# Altium schematic symbol library WR-FPC.SchLib: 258 symbols (part 5 of 6)
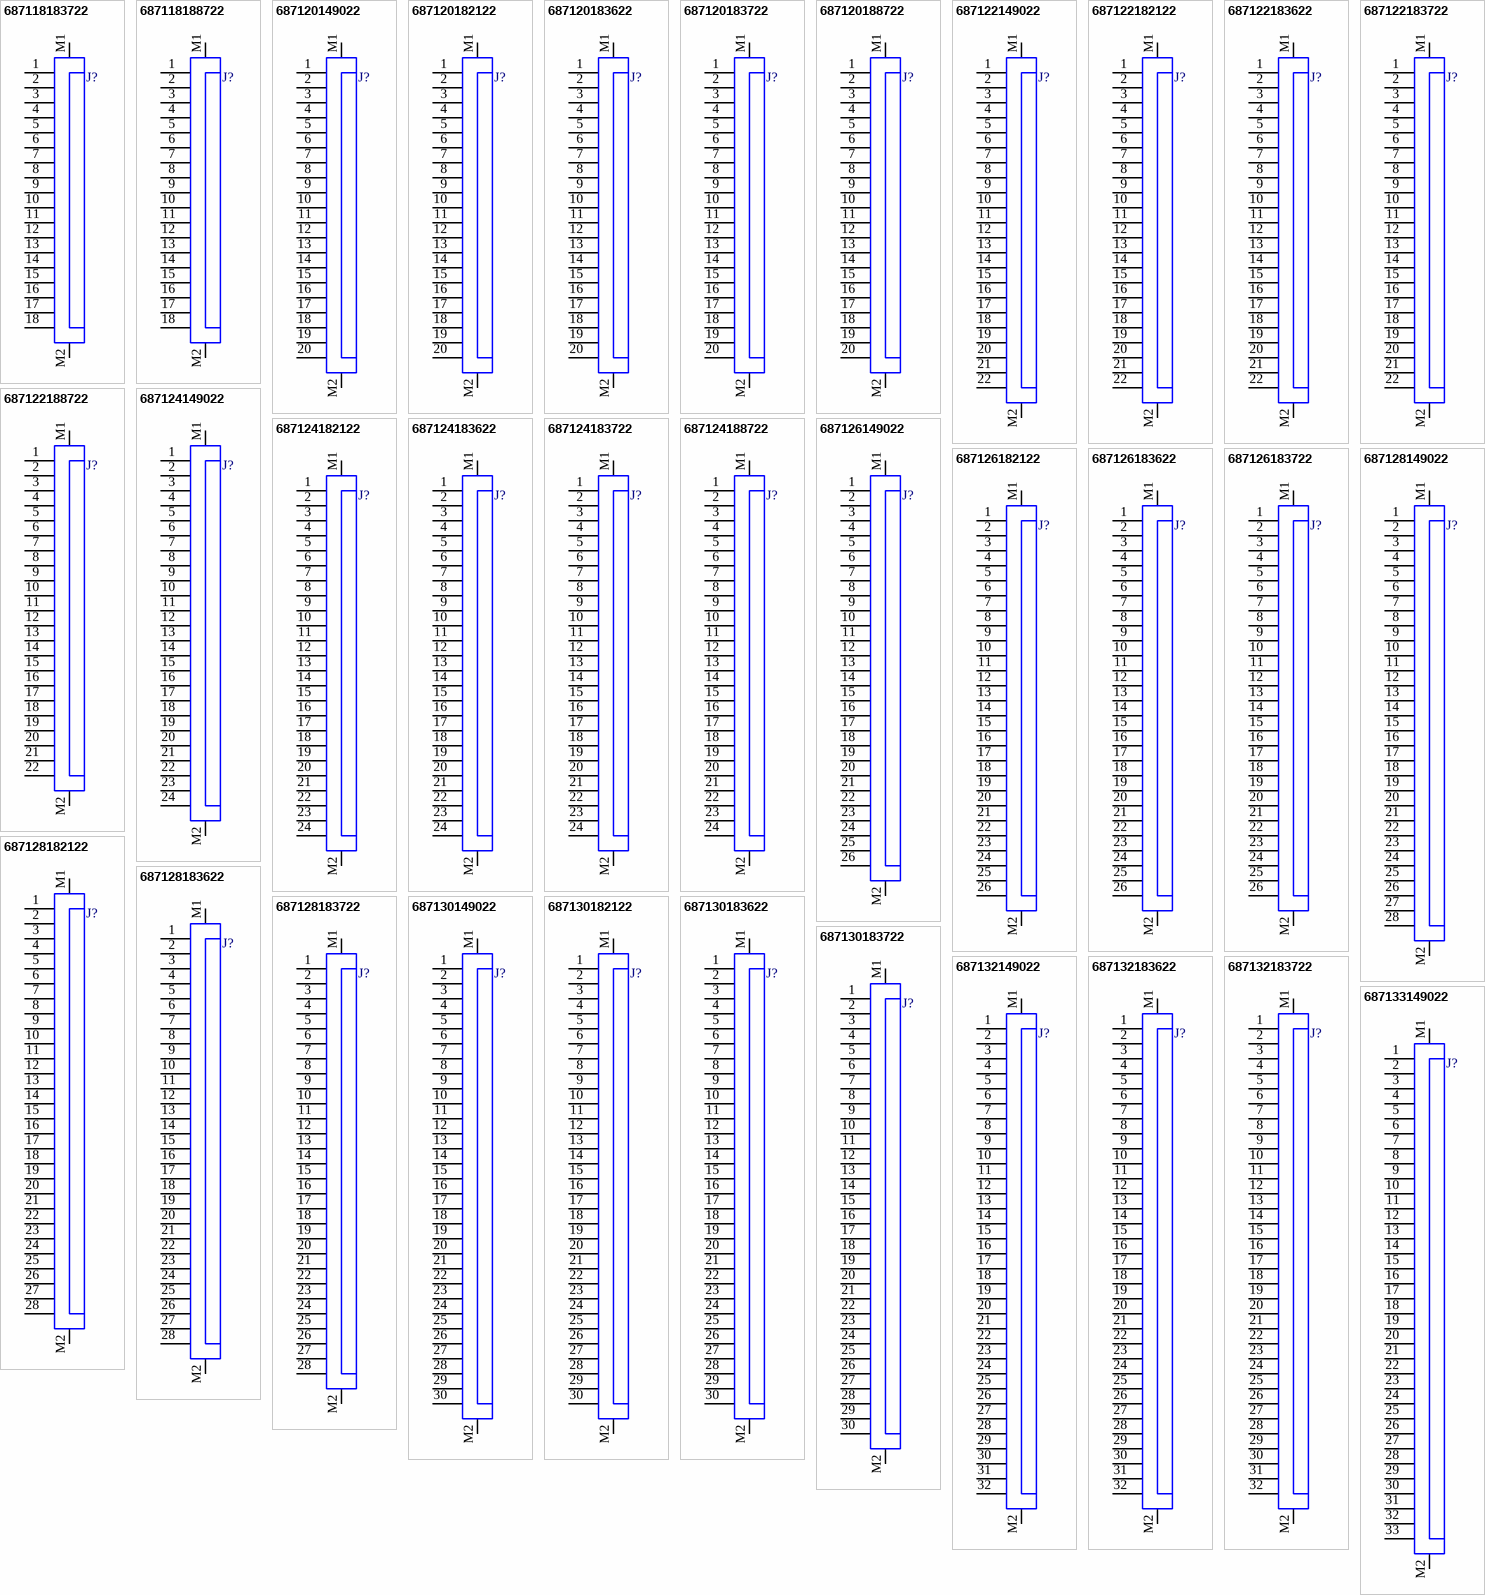
[diagram p11: symbols 687118183722 to 687133149022]

## 687126182122
designator J?  (value not drawn)
WR-FPC SMT ZIF Horizontal Dual Contact, pitch 0.5mm, Horizontal, 26pins; Manufacturer: Wurth Elektronik; Contact Resistance: 30mΩ; Rated Current: 0.5A; Working Voltage: 50VAC; Withstanding Voltage: 1000VAC; ComponentLink1Description: Datasheet; ComponentLink1URL: https://www.we-online.com/redexpert/spec/687126182122?ad; Manufacturer Part Number: 687126182122; Category: FPC Connectors; Mount: Surface Mount; Operating Temperature Max: 85°C; Operating Temperature Min: -55°C; Packaging: Tape and Reel; Length: 15mm; Width: 3.7mm; Height: 0.96mm; Number of Pins: 26; Orientation: Horizontal; Pitch: 0.5mm; LCSC Part #: N/A; Supplier 1: Mouser; Supplier 1 Part Number: N/A; Supplier 1 URL: N/A; Supplier 2: Digi-Key; Supplier 2 Part Number: N/A; Supplier 2 URL: N/A; Supplier 3: thegioiic; Supplier 3 Part Number: N/A; Supplier 3 URL: N/A; Value: 687126182122
footprint 687126182122
pins: 1, 2, 3, 4, 5, 6, 7, 8, 9, 10, 11, 12, 13, 14, 15, 16, 17, 18, 19, 20, 21, 22, 23, 24, 25, 26, M1, M2

## 687126183622
designator J?  (value not drawn)
WR-FPC SMT ZIF Horizontal Top Contact Low Profile, pitch 0.5mm, Horizontal, 26pins; Manufacturer: Wurth Elektronik; Contact Resistance: 30mΩ; Rated Current: 0.4A; Working Voltage: 50VAC; Withstanding Voltage: 1000VAC; ComponentLink1Description: Datasheet; ComponentLink1URL: https://www.we-online.com/redexpert/spec/687126183622?ad; Manufacturer Part Number: 687126183622; Category: FPC Connectors; Mount: Surface Mount; Operating Temperature Max: 85°C; Operating Temperature Min: -25°C; Packaging: Tape and Reel; Length: 18.7mm; Width: 4.25mm; Height: 1.2mm; Number of Pins: 26; Orientation: Horizontal; Pitch: 0.5mm; LCSC Part #: N/A; Supplier 1: Mouser; Supplier 1 Part Number: N/A; Supplier 1 URL: N/A; Supplier 2: Digi-Key; Supplier 2 Part Number: N/A; Supplier 2 URL: N/A; Supplier 3: thegioiic; Supplier 3 Part Number: N/A; Supplier 3 URL: N/A; Value: 687126183622
footprint 687126183622
pins: 1, 2, 3, 4, 5, 6, 7, 8, 9, 10, 11, 12, 13, 14, 15, 16, 17, 18, 19, 20, 21, 22, 23, 24, 25, 26, M1, M2

## 687126183722
designator J?  (value not drawn)
WR-FPC SMT ZIF Horizontal Bottom Contact Low Profile, pitch 0.5mm, Horizontal, 26pins; Manufacturer: Wurth Elektronik; Contact Resistance: 30mΩ; Rated Current: 0.4A; Working Voltage: 50VAC; Withstanding Voltage: 1000VAC; ComponentLink1Description: Datasheet; ComponentLink1URL: https://www.we-online.com/redexpert/spec/687126183722?ad; Manufacturer Part Number: 687126183722; Category: FPC Connectors; Mount: Surface Mount; Operating Temperature Max: 85°C; Operating Temperature Min: -25°C; Packaging: Tape and Reel; Length: 18.7mm; Width: 4.25mm; Height: 1.2mm; Number of Pins: 26; Orientation: Horizontal; Pitch: 0.5mm; LCSC Part #: N/A; Supplier 1: Mouser; Supplier 1 Part Number: N/A; Supplier 1 URL: N/A; Supplier 2: Digi-Key; Supplier 2 Part Number: N/A; Supplier 2 URL: N/A; Supplier 3: thegioiic; Supplier 3 Part Number: N/A; Supplier 3 URL: N/A; Value: 687126183722
footprint 687126183722
pins: 1, 2, 3, 4, 5, 6, 7, 8, 9, 10, 11, 12, 13, 14, 15, 16, 17, 18, 19, 20, 21, 22, 23, 24, 25, 26, M1, M2

## 687128149022
designator J?  (value not drawn)
WR-FPC SMT ZIF Horizontal Bottom Contact, pitch 0.5mm, Horizontal, 28pins; Manufacturer: Wurth Elektronik; Contact Resistance: 50mΩ; Rated Current: 0.5A; Working Voltage: 50VAC; Withstanding Voltage: 1000VAC; ComponentLink1Description: Datasheet; ComponentLink1URL: https://www.we-online.com/redexpert/spec/687128149022?ad; Manufacturer Part Number: 687128149022; Category: FPC Connectors; Mount: Surface Mount; Operating Temperature Max: 105°C; Operating Temperature Min: -40°C; Packaging: Tape and Reel; Length: 18.1mm; Width: 6.5mm; Height: 2.2mm; Number of Pins: 28; Orientation: Horizontal; Pitch: 0.5mm; LCSC Part #: N/A; Supplier 1: Mouser; Supplier 1 Part Number: N/A; Supplier 1 URL: N/A; Supplier 2: Digi-Key; Supplier 2 Part Number: N/A; Supplier 2 URL: N/A; Supplier 3: thegioiic; Supplier 3 Part Number: N/A; Supplier 3 URL: N/A; Value: 687128149022
footprint 687128149022
pins: 1, 2, 3, 4, 5, 6, 7, 8, 9, 10, 11, 12, 13, 14, 15, 16, 17, 18, 19, 20, 21, 22, 23, 24, 25, 26, 27, 28, M1, M2

## 687128182122
designator J?  (value not drawn)
WR-FPC SMT ZIF Horizontal Dual Contact, pitch 0.5mm, Horizontal, 28pins; Manufacturer: Wurth Elektronik; Contact Resistance: 30mΩ; Rated Current: 0.5A; Working Voltage: 50VAC; Withstanding Voltage: 1000VAC; ComponentLink1Description: Datasheet; ComponentLink1URL: https://www.we-online.com/redexpert/spec/687128182122?ad; Manufacturer Part Number: 687128182122; Category: FPC Connectors; Mount: Surface Mount; Operating Temperature Max: 85°C; Operating Temperature Min: -55°C; Packaging: Tape and Reel; Length: 16mm; Width: 3.7mm; Height: 0.96mm; Number of Pins: 28; Orientation: Horizontal; Pitch: 0.5mm; LCSC Part #: N/A; Supplier 1: Mouser; Supplier 1 Part Number: N/A; Supplier 1 URL: N/A; Supplier 2: Digi-Key; Supplier 2 Part Number: N/A; Supplier 2 URL: N/A; Supplier 3: thegioiic; Supplier 3 Part Number: N/A; Supplier 3 URL: N/A; Value: 687128182122
footprint 687128182122
pins: 1, 2, 3, 4, 5, 6, 7, 8, 9, 10, 11, 12, 13, 14, 15, 16, 17, 18, 19, 20, 21, 22, 23, 24, 25, 26, 27, 28, M1, M2

## 687128183622
designator J?  (value not drawn)
WR-FPC SMT ZIF Horizontal Top Contact Low Profile, pitch 0.5mm, Horizontal, 28pins; Manufacturer: Wurth Elektronik; Contact Resistance: 30mΩ; Rated Current: 0.4A; Working Voltage: 50VAC; Withstanding Voltage: 1000VAC; ComponentLink1Description: Datasheet; ComponentLink1URL: https://www.we-online.com/redexpert/spec/687128183622?ad; Manufacturer Part Number: 687128183622; Category: FPC Connectors; Mount: Surface Mount; Operating Temperature Max: 85°C; Operating Temperature Min: -25°C; Packaging: Tape and Reel; Length: 19.7mm; Width: 4.25mm; Height: 1.2mm; Number of Pins: 28; Orientation: Horizontal; Pitch: 0.5mm; LCSC Part #: N/A; Supplier 1: Mouser; Supplier 1 Part Number: N/A; Supplier 1 URL: N/A; Supplier 2: Digi-Key; Supplier 2 Part Number: N/A; Supplier 2 URL: N/A; Supplier 3: thegioiic; Supplier 3 Part Number: N/A; Supplier 3 URL: N/A; Value: 687128183622
footprint 687128183622
pins: 1, 2, 3, 4, 5, 6, 7, 8, 9, 10, 11, 12, 13, 14, 15, 16, 17, 18, 19, 20, 21, 22, 23, 24, 25, 26, 27, 28, M1, M2

## 687128183722
designator J?  (value not drawn)
WR-FPC SMT ZIF Horizontal Bottom Contact Low Profile, pitch 0.5mm, Horizontal, 28pins; Manufacturer: Wurth Elektronik; Contact Resistance: 30mΩ; Rated Current: 0.4A; Working Voltage: 50VAC; Withstanding Voltage: 1000VAC; ComponentLink1Description: Datasheet; ComponentLink1URL: https://www.we-online.com/redexpert/spec/687128183722?ad; Manufacturer Part Number: 687128183722; Category: FPC Connectors; Mount: Surface Mount; Operating Temperature Max: 85°C; Operating Temperature Min: -25°C; Packaging: Tape and Reel; Length: 19.7mm; Width: 4.25mm; Height: 1.2mm; Number of Pins: 28; Orientation: Horizontal; Pitch: 0.5mm; LCSC Part #: N/A; Supplier 1: Mouser; Supplier 1 Part Number: N/A; Supplier 1 URL: N/A; Supplier 2: Digi-Key; Supplier 2 Part Number: N/A; Supplier 2 URL: N/A; Supplier 3: thegioiic; Supplier 3 Part Number: N/A; Supplier 3 URL: N/A; Value: 687128183722
footprint 687128183722
pins: 1, 2, 3, 4, 5, 6, 7, 8, 9, 10, 11, 12, 13, 14, 15, 16, 17, 18, 19, 20, 21, 22, 23, 24, 25, 26, 27, 28, M1, M2

## 687130149022
designator J?  (value not drawn)
WR-FPC SMT ZIF Horizontal Bottom Contact, pitch 0.5mm, Horizontal, 30pins; Manufacturer: Wurth Elektronik; Contact Resistance: 50mΩ; Rated Current: 0.5A; Working Voltage: 50VAC; Withstanding Voltage: 1000VAC; ComponentLink1Description: Datasheet; ComponentLink1URL: https://www.we-online.com/redexpert/spec/687130149022?ad; Manufacturer Part Number: 687130149022; Category: FPC Connectors; Mount: Surface Mount; Operating Temperature Max: 105°C; Operating Temperature Min: -40°C; Packaging: Tape and Reel; Length: 19.1mm; Width: 6.5mm; Height: 2.2mm; Number of Pins: 30; Orientation: Horizontal; Pitch: 0.5mm; LCSC Part #: N/A; Supplier 1: Mouser; Supplier 1 Part Number: N/A; Supplier 1 URL: N/A; Supplier 2: Digi-Key; Supplier 2 Part Number: N/A; Supplier 2 URL: N/A; Supplier 3: thegioiic; Supplier 3 Part Number: N/A; Supplier 3 URL: N/A; Value: 687130149022
footprint 687130149022
pins: 1, 2, 3, 4, 5, 6, 7, 8, 9, 10, 11, 12, 13, 14, 15, 16, 17, 18, 19, 20, 21, 22, 23, 24, 25, 26, 27, 28, 29, 30, M1, M2

## 687130182122
designator J?  (value not drawn)
WR-FPC SMT ZIF Horizontal Dual Contact, pitch 0.5mm, Horizontal, 30pins; Manufacturer: Wurth Elektronik; Contact Resistance: 30mΩ; Rated Current: 0.5A; Working Voltage: 50VAC; Withstanding Voltage: 1000VAC; ComponentLink1Description: Datasheet; ComponentLink1URL: https://www.we-online.com/redexpert/spec/687130182122?ad; Manufacturer Part Number: 687130182122; Category: FPC Connectors; Mount: Surface Mount; Operating Temperature Max: 85°C; Operating Temperature Min: -55°C; Packaging: Tape and Reel; Length: 17mm; Width: 3.7mm; Height: 0.96mm; Number of Pins: 30; Orientation: Horizontal; Pitch: 0.5mm; LCSC Part #: N/A; Supplier 1: Mouser; Supplier 1 Part Number: N/A; Supplier 1 URL: N/A; Supplier 2: Digi-Key; Supplier 2 Part Number: N/A; Supplier 2 URL: N/A; Supplier 3: thegioiic; Supplier 3 Part Number: N/A; Supplier 3 URL: N/A; Value: 687130182122
footprint 687130182122
pins: 1, 2, 3, 4, 5, 6, 7, 8, 9, 10, 11, 12, 13, 14, 15, 16, 17, 18, 19, 20, 21, 22, 23, 24, 25, 26, 27, 28, 29, 30, M1, M2

## 687130183622
designator J?  (value not drawn)
WR-FPC SMT ZIF Horizontal Top Contact Low Profile, pitch 0.5mm, Horizontal, 30pins; Manufacturer: Wurth Elektronik; Contact Resistance: 30mΩ; Rated Current: 0.4A; Working Voltage: 50VAC; Withstanding Voltage: 1000VAC; ComponentLink1Description: Datasheet; ComponentLink1URL: https://www.we-online.com/redexpert/spec/687130183622?ad; Manufacturer Part Number: 687130183622; Category: FPC Connectors; Mount: Surface Mount; Operating Temperature Max: 85°C; Operating Temperature Min: -25°C; Packaging: Tape and Reel; Length: 20.7mm; Width: 4.25mm; Height: 1.2mm; Number of Pins: 30; Orientation: Horizontal; Pitch: 0.5mm; LCSC Part #: N/A; Supplier 1: Mouser; Supplier 1 Part Number: N/A; Supplier 1 URL: N/A; Supplier 2: Digi-Key; Supplier 2 Part Number: N/A; Supplier 2 URL: N/A; Supplier 3: thegioiic; Supplier 3 Part Number: N/A; Supplier 3 URL: N/A; Value: 687130183622
footprint 687130183622
pins: 1, 2, 3, 4, 5, 6, 7, 8, 9, 10, 11, 12, 13, 14, 15, 16, 17, 18, 19, 20, 21, 22, 23, 24, 25, 26, 27, 28, 29, 30, M1, M2

## 687130183722
designator J?  (value not drawn)
WR-FPC SMT ZIF Horizontal Bottom Contact Low Profile, pitch 0.5mm, Horizontal, 30pins; Manufacturer: Wurth Elektronik; Contact Resistance: 30mΩ; Rated Current: 0.4A; Working Voltage: 50VAC; Withstanding Voltage: 1000VAC; ComponentLink1Description: Datasheet; ComponentLink1URL: https://www.we-online.com/redexpert/spec/687130183722?ad; Manufacturer Part Number: 687130183722; Category: FPC Connectors; Mount: Surface Mount; Operating Temperature Max: 85°C; Operating Temperature Min: -25°C; Packaging: Tape and Reel; Length: 20.7mm; Width: 4.25mm; Height: 1.2mm; Number of Pins: 30; Orientation: Horizontal; Pitch: 0.5mm; LCSC Part #: N/A; Supplier 1: Mouser; Supplier 1 Part Number: N/A; Supplier 1 URL: N/A; Supplier 2: Digi-Key; Supplier 2 Part Number: N/A; Supplier 2 URL: N/A; Supplier 3: thegioiic; Supplier 3 Part Number: N/A; Supplier 3 URL: N/A; Value: 687130183722
footprint 687130183722
pins: 1, 2, 3, 4, 5, 6, 7, 8, 9, 10, 11, 12, 13, 14, 15, 16, 17, 18, 19, 20, 21, 22, 23, 24, 25, 26, 27, 28, 29, 30, M1, M2

## 687132149022
designator J?  (value not drawn)
WR-FPC SMT ZIF Horizontal Bottom Contact, pitch 0.5mm, Horizontal, 32pins; Manufacturer: Wurth Elektronik; Contact Resistance: 50mΩ; Rated Current: 0.5A; Working Voltage: 50VAC; Withstanding Voltage: 1000VAC; ComponentLink1Description: Datasheet; ComponentLink1URL: https://www.we-online.com/redexpert/spec/687132149022?ad; Manufacturer Part Number: 687132149022; Category: FPC Connectors; Mount: Surface Mount; Operating Temperature Max: 105°C; Operating Temperature Min: -40°C; Packaging: Tape and Reel; Length: 20.1mm; Width: 6.5mm; Height: 2.2mm; Number of Pins: 32; Orientation: Horizontal; Pitch: 0.5mm; LCSC Part #: N/A; Supplier 1: Mouser; Supplier 1 Part Number: N/A; Supplier 1 URL: N/A; Supplier 2: Digi-Key; Supplier 2 Part Number: N/A; Supplier 2 URL: N/A; Supplier 3: thegioiic; Supplier 3 Part Number: N/A; Supplier 3 URL: N/A; Value: 687132149022
footprint 687132149022
pins: 1, 2, 3, 4, 5, 6, 7, 8, 9, 10, 11, 12, 13, 14, 15, 16, 17, 18, 19, 20, 21, 22, 23, 24, 25, 26, 27, 28, 29, 30, 31, 32, M1, M2

## 687132183622
designator J?  (value not drawn)
WR-FPC SMT ZIF Horizontal Top Contact Low Profile, pitch 0.5mm, Horizontal, 32pins; Manufacturer: Wurth Elektronik; Contact Resistance: 30mΩ; Rated Current: 0.4A; Working Voltage: 50VAC; Withstanding Voltage: 1000VAC; ComponentLink1Description: Datasheet; ComponentLink1URL: https://www.we-online.com/redexpert/spec/687132183622?ad; Manufacturer Part Number: 687132183622; Category: FPC Connectors; Mount: Surface Mount; Operating Temperature Max: 85°C; Operating Temperature Min: -25°C; Packaging: Tape and Reel; Length: 21.7mm; Width: 4.25mm; Height: 1.2mm; Number of Pins: 32; Orientation: Horizontal; Pitch: 0.5mm; LCSC Part #: N/A; Supplier 1: Mouser; Supplier 1 Part Number: N/A; Supplier 1 URL: N/A; Supplier 2: Digi-Key; Supplier 2 Part Number: N/A; Supplier 2 URL: N/A; Supplier 3: thegioiic; Supplier 3 Part Number: N/A; Supplier 3 URL: N/A; Value: 687132183622
footprint 687132183622
pins: 1, 2, 3, 4, 5, 6, 7, 8, 9, 10, 11, 12, 13, 14, 15, 16, 17, 18, 19, 20, 21, 22, 23, 24, 25, 26, 27, 28, 29, 30, 31, 32, M1, M2

## 687132183722
designator J?  (value not drawn)
WR-FPC SMT ZIF Horizontal Bottom Contact Low Profile, pitch 0.5mm, Horizontal, 32pins; Manufacturer: Wurth Elektronik; Contact Resistance: 30mΩ; Rated Current: 0.4A; Working Voltage: 50VAC; Withstanding Voltage: 1000VAC; ComponentLink1Description: Datasheet; ComponentLink1URL: https://www.we-online.com/redexpert/spec/687132183722?ad; Manufacturer Part Number: 687132183722; Category: FPC Connectors; Mount: Surface Mount; Operating Temperature Max: 85°C; Operating Temperature Min: -25°C; Packaging: Tape and Reel; Length: 21.7mm; Width: 4.25mm; Height: 1.2mm; Number of Pins: 32; Orientation: Horizontal; Pitch: 0.5mm; LCSC Part #: N/A; Supplier 1: Mouser; Supplier 1 Part Number: N/A; Supplier 1 URL: N/A; Supplier 2: Digi-Key; Supplier 2 Part Number: N/A; Supplier 2 URL: N/A; Supplier 3: thegioiic; Supplier 3 Part Number: N/A; Supplier 3 URL: N/A; Value: 687132183722
footprint 687132183722
pins: 1, 2, 3, 4, 5, 6, 7, 8, 9, 10, 11, 12, 13, 14, 15, 16, 17, 18, 19, 20, 21, 22, 23, 24, 25, 26, 27, 28, 29, 30, 31, 32, M1, M2

## 687133149022
designator J?  (value not drawn)
WR-FPC SMT ZIF Horizontal Bottom Contact, pitch 0.5mm, Horizontal, 33pins; Manufacturer: Wurth Elektronik; Contact Resistance: 50mΩ; Rated Current: 0.5A; Working Voltage: 50VAC; Withstanding Voltage: 1000VAC; ComponentLink1Description: Datasheet; ComponentLink1URL: https://www.we-online.com/redexpert/spec/687133149022?ad; Manufacturer Part Number: 687133149022; Category: FPC Connectors; Mount: Surface Mount; Operating Temperature Max: 105°C; Operating Temperature Min: -40°C; Packaging: Tape and Reel; Length: 20.6mm; Width: 6.5mm; Height: 2.2mm; Number of Pins: 33; Orientation: Horizontal; Pitch: 0.5mm; LCSC Part #: N/A; Supplier 1: Mouser; Supplier 1 Part Number: N/A; Supplier 1 URL: N/A; Supplier 2: Digi-Key; Supplier 2 Part Number: N/A; Supplier 2 URL: N/A; Supplier 3: thegioiic; Supplier 3 Part Number: N/A; Supplier 3 URL: N/A; Value: 687133149022
footprint 687133149022
pins: 1, 2, 3, 4, 5, 6, 7, 8, 9, 10, 11, 12, 13, 14, 15, 16, 17, 18, 19, 20, 21, 22, 23, 24, 25, 26, 27, 28, 29, 30, 31, 32, 33, M1, M2

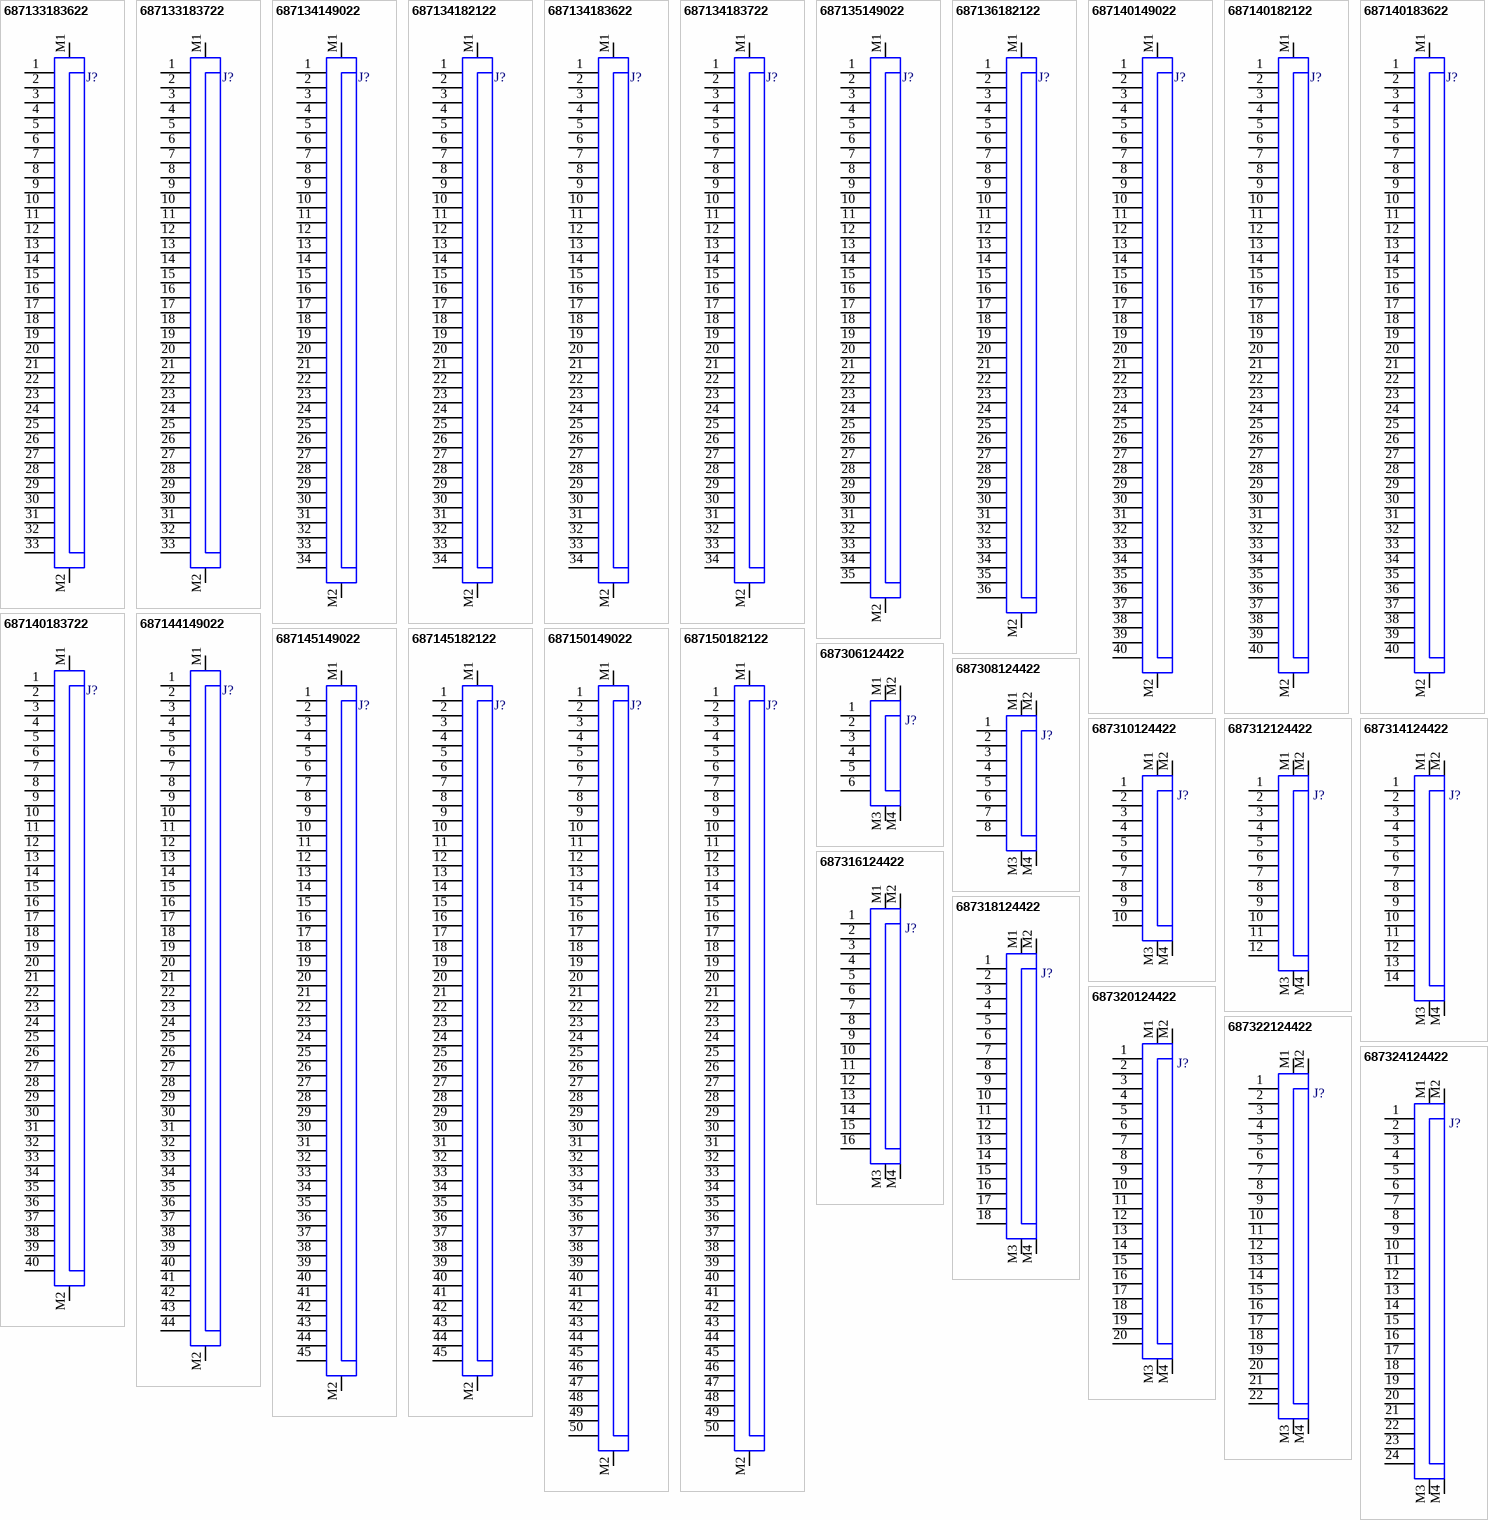
[diagram p6: symbols 687133183622 to 687324124422]

## 687133183622
designator J?  (value not drawn)
WR-FPC SMT ZIF Horizontal Top Contact Low Profile, pitch 0.5mm, Horizontal, 33pins; Manufacturer: Wurth Elektronik; Contact Resistance: 30mΩ; Rated Current: 0.4A; Working Voltage: 50VAC; Withstanding Voltage: 1000VAC; ComponentLink1Description: Datasheet; ComponentLink1URL: https://www.we-online.com/redexpert/spec/687133183622?ad; Manufacturer Part Number: 687133183622; Category: FPC Connectors; Mount: Surface Mount; Operating Temperature Max: 85°C; Operating Temperature Min: -25°C; Packaging: Tape and Reel; Length: 22.2mm; Width: 4.25mm; Height: 1.2mm; Number of Pins: 33; Orientation: Horizontal; Pitch: 0.5mm; LCSC Part #: N/A; Supplier 1: Mouser; Supplier 1 Part Number: N/A; Supplier 1 URL: N/A; Supplier 2: Digi-Key; Supplier 2 Part Number: N/A; Supplier 2 URL: N/A; Supplier 3: thegioiic; Supplier 3 Part Number: N/A; Supplier 3 URL: N/A; Value: 687133183622
footprint 687133183622
pins: 1, 2, 3, 4, 5, 6, 7, 8, 9, 10, 11, 12, 13, 14, 15, 16, 17, 18, 19, 20, 21, 22, 23, 24, 25, 26, 27, 28, 29, 30, 31, 32, 33, M1, M2

## 687133183722
designator J?  (value not drawn)
WR-FPC SMT ZIF Horizontal Bottom Contact Low Profile, pitch 0.5mm, Horizontal, 33pins; Manufacturer: Wurth Elektronik; Contact Resistance: 30mΩ; Rated Current: 0.4A; Working Voltage: 50VAC; Withstanding Voltage: 1000VAC; ComponentLink1Description: Datasheet; ComponentLink1URL: https://www.we-online.com/redexpert/spec/687133183722?ad; Manufacturer Part Number: 687133183722; Category: FPC Connectors; Mount: Surface Mount; Operating Temperature Max: 85°C; Operating Temperature Min: -25°C; Packaging: Tape and Reel; Length: 22.2mm; Width: 4.25mm; Height: 1.2mm; Number of Pins: 33; Orientation: Horizontal; Pitch: 0.5mm; LCSC Part #: N/A; Supplier 1: Mouser; Supplier 1 Part Number: N/A; Supplier 1 URL: N/A; Supplier 2: Digi-Key; Supplier 2 Part Number: N/A; Supplier 2 URL: N/A; Supplier 3: thegioiic; Supplier 3 Part Number: N/A; Supplier 3 URL: N/A; Value: 687133183722
footprint 687133183722
pins: 1, 2, 3, 4, 5, 6, 7, 8, 9, 10, 11, 12, 13, 14, 15, 16, 17, 18, 19, 20, 21, 22, 23, 24, 25, 26, 27, 28, 29, 30, 31, 32, 33, M1, M2

## 687134149022
designator J?  (value not drawn)
WR-FPC SMT ZIF Horizontal Bottom Contact, pitch 0.5mm, Horizontal, 34pins; Manufacturer: Wurth Elektronik; Contact Resistance: 50mΩ; Rated Current: 0.5A; Working Voltage: 50VAC; Withstanding Voltage: 1000VAC; ComponentLink1Description: Datasheet; ComponentLink1URL: https://www.we-online.com/redexpert/spec/687134149022?ad; Manufacturer Part Number: 687134149022; Category: FPC Connectors; Mount: Surface Mount; Operating Temperature Max: 105°C; Operating Temperature Min: -40°C; Packaging: Tape and Reel; Length: 21.1mm; Width: 6.5mm; Height: 2.2mm; Number of Pins: 34; Orientation: Horizontal; Pitch: 0.5mm; LCSC Part #: N/A; Supplier 1: Mouser; Supplier 1 Part Number: N/A; Supplier 1 URL: N/A; Supplier 2: Digi-Key; Supplier 2 Part Number: N/A; Supplier 2 URL: N/A; Supplier 3: thegioiic; Supplier 3 Part Number: N/A; Supplier 3 URL: N/A; Value: 687134149022
footprint 687134149022
pins: 1, 2, 3, 4, 5, 6, 7, 8, 9, 10, 11, 12, 13, 14, 15, 16, 17, 18, 19, 20, 21, 22, 23, 24, 25, 26, 27, 28, 29, 30, 31, 32, 33, 34, M1, M2

## 687134182122
designator J?  (value not drawn)
WR-FPC SMT ZIF Horizontal Dual Contact, pitch 0.5mm, Horizontal, 34pins; Manufacturer: Wurth Elektronik; Contact Resistance: 30mΩ; Rated Current: 0.5A; Working Voltage: 50VAC; Withstanding Voltage: 1000VAC; ComponentLink1Description: Datasheet; ComponentLink1URL: https://www.we-online.com/redexpert/spec/687134182122?ad; Manufacturer Part Number: 687134182122; Category: FPC Connectors; Mount: Surface Mount; Operating Temperature Max: 85°C; Operating Temperature Min: -55°C; Packaging: Tape and Reel; Length: 19mm; Width: 3.7mm; Height: 0.96mm; Number of Pins: 34; Orientation: Horizontal; Pitch: 0.5mm; LCSC Part #: N/A; Supplier 1: Mouser; Supplier 1 Part Number: N/A; Supplier 1 URL: N/A; Supplier 2: Digi-Key; Supplier 2 Part Number: N/A; Supplier 2 URL: N/A; Supplier 3: thegioiic; Supplier 3 Part Number: N/A; Supplier 3 URL: N/A; Value: 687134182122
footprint 687134182122
pins: 1, 2, 3, 4, 5, 6, 7, 8, 9, 10, 11, 12, 13, 14, 15, 16, 17, 18, 19, 20, 21, 22, 23, 24, 25, 26, 27, 28, 29, 30, 31, 32, 33, 34, M1, M2

## 687134183622
designator J?  (value not drawn)
WR-FPC SMT ZIF Horizontal Top Contact Low Profile, pitch 0.5mm, Horizontal, 34pins; Manufacturer: Wurth Elektronik; Contact Resistance: 30mΩ; Rated Current: 0.4A; Working Voltage: 50VAC; Withstanding Voltage: 1000VAC; ComponentLink1Description: Datasheet; ComponentLink1URL: https://www.we-online.com/redexpert/spec/687134183622?ad; Manufacturer Part Number: 687134183622; Category: FPC Connectors; Mount: Surface Mount; Operating Temperature Max: 85°C; Operating Temperature Min: -25°C; Packaging: Tape and Reel; Length: 22.7mm; Width: 4.25mm; Height: 1.2mm; Number of Pins: 34; Orientation: Horizontal; Pitch: 0.5mm; LCSC Part #: N/A; Supplier 1: Mouser; Supplier 1 Part Number: N/A; Supplier 1 URL: N/A; Supplier 2: Digi-Key; Supplier 2 Part Number: N/A; Supplier 2 URL: N/A; Supplier 3: thegioiic; Supplier 3 Part Number: N/A; Supplier 3 URL: N/A; Value: 687134183622
footprint 687134183622
pins: 1, 2, 3, 4, 5, 6, 7, 8, 9, 10, 11, 12, 13, 14, 15, 16, 17, 18, 19, 20, 21, 22, 23, 24, 25, 26, 27, 28, 29, 30, 31, 32, 33, 34, M1, M2

## 687134183722
designator J?  (value not drawn)
WR-FPC SMT ZIF Horizontal Bottom Contact Low Profile, pitch 0.5mm, Horizontal, 34pins; Manufacturer: Wurth Elektronik; Contact Resistance: 30mΩ; Rated Current: 0.4A; Working Voltage: 50VAC; Withstanding Voltage: 1000VAC; ComponentLink1Description: Datasheet; ComponentLink1URL: https://www.we-online.com/redexpert/spec/687134183722?ad; Manufacturer Part Number: 687134183722; Category: FPC Connectors; Mount: Surface Mount; Operating Temperature Max: 85°C; Operating Temperature Min: -25°C; Packaging: Tape and Reel; Length: 22.7mm; Width: 4.25mm; Height: 1.2mm; Number of Pins: 34; Orientation: Horizontal; Pitch: 0.5mm; LCSC Part #: N/A; Supplier 1: Mouser; Supplier 1 Part Number: N/A; Supplier 1 URL: N/A; Supplier 2: Digi-Key; Supplier 2 Part Number: N/A; Supplier 2 URL: N/A; Supplier 3: thegioiic; Supplier 3 Part Number: N/A; Supplier 3 URL: N/A; Value: 687134183722
footprint 687134183722
pins: 1, 2, 3, 4, 5, 6, 7, 8, 9, 10, 11, 12, 13, 14, 15, 16, 17, 18, 19, 20, 21, 22, 23, 24, 25, 26, 27, 28, 29, 30, 31, 32, 33, 34, M1, M2

## 687135149022
designator J?  (value not drawn)
WR-FPC SMT ZIF Horizontal Bottom Contact, pitch 0.5mm, Horizontal, 35pins; Manufacturer: Wurth Elektronik; Contact Resistance: 50mΩ; Rated Current: 0.5A; Working Voltage: 50VAC; Withstanding Voltage: 1000VAC; ComponentLink1Description: Datasheet; ComponentLink1URL: https://www.we-online.com/redexpert/spec/687135149022?ad; Manufacturer Part Number: 687135149022; Category: FPC Connectors; Mount: Surface Mount; Operating Temperature Max: 105°C; Operating Temperature Min: -40°C; Packaging: Tape and Reel; Length: 21.6mm; Width: 6.5mm; Height: 2.2mm; Number of Pins: 35; Orientation: Horizontal; Pitch: 0.5mm; LCSC Part #: N/A; Supplier 1: Mouser; Supplier 1 Part Number: N/A; Supplier 1 URL: N/A; Supplier 2: Digi-Key; Supplier 2 Part Number: N/A; Supplier 2 URL: N/A; Supplier 3: thegioiic; Supplier 3 Part Number: N/A; Supplier 3 URL: N/A; Value: 687135149022
footprint 687135149022
pins: 1, 2, 3, 4, 5, 6, 7, 8, 9, 10, 11, 12, 13, 14, 15, 16, 17, 18, 19, 20, 21, 22, 23, 24, 25, 26, 27, 28, 29, 30, 31, 32, 33, 34, 35, M1, M2

## 687136182122
designator J?  (value not drawn)
WR-FPC SMT ZIF Horizontal Dual Contact, pitch 0.5mm, Horizontal, 36pins; Manufacturer: Wurth Elektronik; Contact Resistance: 30mΩ; Rated Current: 0.5A; Working Voltage: 50VAC; Withstanding Voltage: 1000VAC; ComponentLink1Description: Datasheet; ComponentLink1URL: https://www.we-online.com/redexpert/spec/687136182122?ad; Manufacturer Part Number: 687136182122; Category: FPC Connectors; Mount: Surface Mount; Operating Temperature Max: 85°C; Operating Temperature Min: -55°C; Packaging: Tape and Reel; Length: 20mm; Width: 3.7mm; Height: 0.96mm; Number of Pins: 36; Orientation: Horizontal; Pitch: 0.5mm; LCSC Part #: N/A; Supplier 1: Mouser; Supplier 1 Part Number: N/A; Supplier 1 URL: N/A; Supplier 2: Digi-Key; Supplier 2 Part Number: N/A; Supplier 2 URL: N/A; Supplier 3: thegioiic; Supplier 3 Part Number: N/A; Supplier 3 URL: N/A; Value: 687136182122
footprint 687136182122
pins: 1, 2, 3, 4, 5, 6, 7, 8, 9, 10, 11, 12, 13, 14, 15, 16, 17, 18, 19, 20, 21, 22, 23, 24, 25, 26, 27, 28, 29, 30, 31, 32, 33, 34, 35, 36, M1, M2

## 687140149022
designator J?  (value not drawn)
WR-FPC SMT ZIF Horizontal Bottom Contact, pitch 0.5mm, Horizontal, 40pins; Manufacturer: Wurth Elektronik; Contact Resistance: 50mΩ; Rated Current: 0.5A; Working Voltage: 50VAC; Withstanding Voltage: 1000VAC; ComponentLink1Description: Datasheet; ComponentLink1URL: https://www.we-online.com/redexpert/spec/687140149022?ad; Manufacturer Part Number: 687140149022; Category: FPC Connectors; Mount: Surface Mount; Operating Temperature Max: 105°C; Operating Temperature Min: -40°C; Packaging: Tape and Reel; Length: 24.1mm; Width: 6.5mm; Height: 2.2mm; Number of Pins: 40; Orientation: Horizontal; Pitch: 0.5mm; LCSC Part #: N/A; Supplier 1: Mouser; Supplier 1 Part Number: N/A; Supplier 1 URL: N/A; Supplier 2: Digi-Key; Supplier 2 Part Number: N/A; Supplier 2 URL: N/A; Supplier 3: thegioiic; Supplier 3 Part Number: N/A; Supplier 3 URL: N/A; Value: 687140149022
footprint 687140149022
pins: 1, 2, 3, 4, 5, 6, 7, 8, 9, 10, 11, 12, 13, 14, 15, 16, 17, 18, 19, 20, 21, 22, 23, 24, 25, 26, 27, 28, 29, 30, 31, 32, 33, 34, 35, 36, 37, 38, 39, 40, M1, M2

## 687140182122
designator J?  (value not drawn)
WR-FPC SMT ZIF Horizontal Dual Contact, pitch 0.5mm, Horizontal, 40pins; Manufacturer: Wurth Elektronik; Contact Resistance: 30mΩ; Rated Current: 0.5A; Working Voltage: 50VAC; Withstanding Voltage: 1000VAC; ComponentLink1Description: Datasheet; ComponentLink1URL: https://www.we-online.com/redexpert/spec/687140182122?ad; Manufacturer Part Number: 687140182122; Category: FPC Connectors; Mount: Surface Mount; Operating Temperature Max: 85°C; Operating Temperature Min: -55°C; Packaging: Tape and Reel; Length: 22mm; Width: 3.7mm; Height: 0.96mm; Number of Pins: 40; Orientation: Horizontal; Pitch: 0.5mm; LCSC Part #: N/A; Supplier 1: Mouser; Supplier 1 Part Number: N/A; Supplier 1 URL: N/A; Supplier 2: Digi-Key; Supplier 2 Part Number: N/A; Supplier 2 URL: N/A; Supplier 3: thegioiic; Supplier 3 Part Number: N/A; Supplier 3 URL: N/A; Value: 687140182122
footprint 687140182122
pins: 1, 2, 3, 4, 5, 6, 7, 8, 9, 10, 11, 12, 13, 14, 15, 16, 17, 18, 19, 20, 21, 22, 23, 24, 25, 26, 27, 28, 29, 30, 31, 32, 33, 34, 35, 36, 37, 38, 39, 40, M1, M2

## 687140183622
designator J?  (value not drawn)
WR-FPC SMT ZIF Horizontal Top Contact Low Profile, pitch 0.5mm, Horizontal, 40pins; Manufacturer: Wurth Elektronik; Contact Resistance: 30mΩ; Rated Current: 0.4A; Working Voltage: 50VAC; Withstanding Voltage: 1000VAC; ComponentLink1Description: Datasheet; ComponentLink1URL: https://www.we-online.com/redexpert/spec/687140183622?ad; Manufacturer Part Number: 687140183622; Category: FPC Connectors; Mount: Surface Mount; Operating Temperature Max: 85°C; Operating Temperature Min: -25°C; Packaging: Tape and Reel; Length: 25.7mm; Width: 4.25mm; Height: 1.2mm; Number of Pins: 40; Orientation: Horizontal; Pitch: 0.5mm; LCSC Part #: N/A; Supplier 1: Mouser; Supplier 1 Part Number: N/A; Supplier 1 URL: N/A; Supplier 2: Digi-Key; Supplier 2 Part Number: N/A; Supplier 2 URL: N/A; Supplier 3: thegioiic; Supplier 3 Part Number: N/A; Supplier 3 URL: N/A; Value: 687140183622
footprint 687140183622
pins: 1, 2, 3, 4, 5, 6, 7, 8, 9, 10, 11, 12, 13, 14, 15, 16, 17, 18, 19, 20, 21, 22, 23, 24, 25, 26, 27, 28, 29, 30, 31, 32, 33, 34, 35, 36, 37, 38, 39, 40, M1, M2

## 687140183722
designator J?  (value not drawn)
WR-FPC SMT ZIF Horizontal Bottom Contact Low Profile, pitch 0.5mm, Horizontal, 40pins; Manufacturer: Wurth Elektronik; Contact Resistance: 30mΩ; Rated Current: 0.4A; Working Voltage: 50VAC; Withstanding Voltage: 1000VAC; ComponentLink1Description: Datasheet; ComponentLink1URL: https://www.we-online.com/redexpert/spec/687140183722?ad; Manufacturer Part Number: 687140183722; Category: FPC Connectors; Mount: Surface Mount; Operating Temperature Max: 85°C; Operating Temperature Min: -25°C; Packaging: Tape and Reel; Length: 25.7mm; Width: 4.25mm; Height: 1.2mm; Number of Pins: 40; Orientation: Horizontal; Pitch: 0.5mm; LCSC Part #: N/A; Supplier 1: Mouser; Supplier 1 Part Number: N/A; Supplier 1 URL: N/A; Supplier 2: Digi-Key; Supplier 2 Part Number: N/A; Supplier 2 URL: N/A; Supplier 3: thegioiic; Supplier 3 Part Number: N/A; Supplier 3 URL: N/A; Value: 687140183722
footprint 687140183722
pins: 1, 2, 3, 4, 5, 6, 7, 8, 9, 10, 11, 12, 13, 14, 15, 16, 17, 18, 19, 20, 21, 22, 23, 24, 25, 26, 27, 28, 29, 30, 31, 32, 33, 34, 35, 36, 37, 38, 39, 40, M1, M2

## 687144149022
designator J?  (value not drawn)
WR-FPC SMT ZIF Horizontal Bottom Contact, pitch 0.5mm, Horizontal, 44pins; Manufacturer: Wurth Elektronik; Contact Resistance: 50mΩ; Rated Current: 0.5A; Working Voltage: 50VAC; Withstanding Voltage: 1000VAC; ComponentLink1Description: Datasheet; ComponentLink1URL: https://www.we-online.com/redexpert/spec/687144149022?ad; Manufacturer Part Number: 687144149022; Category: FPC Connectors; Mount: Surface Mount; Operating Temperature Max: 105°C; Operating Temperature Min: -40°C; Packaging: Tape and Reel; Length: 26.1mm; Width: 6.5mm; Height: 2.2mm; Number of Pins: 44; Orientation: Horizontal; Pitch: 0.5mm; LCSC Part #: N/A; Supplier 1: Mouser; Supplier 1 Part Number: N/A; Supplier 1 URL: N/A; Supplier 2: Digi-Key; Supplier 2 Part Number: N/A; Supplier 2 URL: N/A; Supplier 3: thegioiic; Supplier 3 Part Number: N/A; Supplier 3 URL: N/A; Value: 687144149022
footprint 687144149022
pins: 1, 2, 3, 4, 5, 6, 7, 8, 9, 10, 11, 12, 13, 14, 15, 16, 17, 18, 19, 20, 21, 22, 23, 24, 25, 26, 27, 28, 29, 30, 31, 32, 33, 34, 35, 36, 37, 38, 39, 40, 41, 42, 43, 44, M1, M2

## 687145149022
designator J?  (value not drawn)
WR-FPC SMT ZIF Horizontal Bottom Contact, pitch 0.5mm, Horizontal, 45pins; Manufacturer: Wurth Elektronik; Contact Resistance: 50mΩ; Rated Current: 0.5A; Working Voltage: 50VAC; Withstanding Voltage: 1000VAC; ComponentLink1Description: Datasheet; ComponentLink1URL: https://www.we-online.com/redexpert/spec/687145149022?ad; Manufacturer Part Number: 687145149022; Category: FPC Connectors; Mount: Surface Mount; Operating Temperature Max: 105°C; Operating Temperature Min: -40°C; Packaging: Tape and Reel; Length: 26.6mm; Width: 6.5mm; Height: 2.2mm; Number of Pins: 45; Orientation: Horizontal; Pitch: 0.5mm; LCSC Part #: N/A; Supplier 1: Mouser; Supplier 1 Part Number: N/A; Supplier 1 URL: N/A; Supplier 2: Digi-Key; Supplier 2 Part Number: N/A; Supplier 2 URL: N/A; Supplier 3: thegioiic; Supplier 3 Part Number: N/A; Supplier 3 URL: N/A; Value: 687145149022
footprint 687145149022
pins: 1, 2, 3, 4, 5, 6, 7, 8, 9, 10, 11, 12, 13, 14, 15, 16, 17, 18, 19, 20, 21, 22, 23, 24, 25, 26, 27, 28, 29, 30, 31, 32, 33, 34, 35, 36, 37, 38, 39, 40, 41, 42, 43, 44, 45, M1, M2

## 687145182122
designator J?  (value not drawn)
WR-FPC SMT ZIF Horizontal Dual Contact, pitch 0.5mm, Horizontal, 45pins; Manufacturer: Wurth Elektronik; Contact Resistance: 30mΩ; Rated Current: 0.5A; Working Voltage: 50VAC; Withstanding Voltage: 1000VAC; ComponentLink1Description: Datasheet; ComponentLink1URL: https://www.we-online.com/redexpert/spec/687145182122?ad; Manufacturer Part Number: 687145182122; Category: FPC Connectors; Mount: Surface Mount; Operating Temperature Max: 85°C; Operating Temperature Min: -55°C; Packaging: Tape and Reel; Length: 24.5mm; Width: 3.7mm; Height: 0.96mm; Number of Pins: 45; Orientation: Horizontal; Pitch: 0.5mm; LCSC Part #: N/A; Supplier 1: Mouser; Supplier 1 Part Number: N/A; Supplier 1 URL: N/A; Supplier 2: Digi-Key; Supplier 2 Part Number: N/A; Supplier 2 URL: N/A; Supplier 3: thegioiic; Supplier 3 Part Number: N/A; Supplier 3 URL: N/A; Value: 687145182122
footprint 687145182122
pins: 1, 2, 3, 4, 5, 6, 7, 8, 9, 10, 11, 12, 13, 14, 15, 16, 17, 18, 19, 20, 21, 22, 23, 24, 25, 26, 27, 28, 29, 30, 31, 32, 33, 34, 35, 36, 37, 38, 39, 40, 41, 42, 43, 44, 45, M1, M2

## 687150149022
designator J?  (value not drawn)
WR-FPC SMT ZIF Horizontal Bottom Contact, pitch 0.5mm, Horizontal, 50pins; Manufacturer: Wurth Elektronik; Contact Resistance: 50mΩ; Rated Current: 0.5A; Working Voltage: 50VAC; Withstanding Voltage: 1000VAC; ComponentLink1Description: Datasheet; ComponentLink1URL: https://www.we-online.com/redexpert/spec/687150149022?ad; Manufacturer Part Number: 687150149022; Category: FPC Connectors; Mount: Surface Mount; Operating Temperature Max: 105°C; Operating Temperature Min: -40°C; Packaging: Tape and Reel; Length: 29.1mm; Width: 6.5mm; Height: 2.2mm; Number of Pins: 50; Orientation: Horizontal; Pitch: 0.5mm; LCSC Part #: N/A; Supplier 1: Mouser; Supplier 1 Part Number: N/A; Supplier 1 URL: N/A; Supplier 2: Digi-Key; Supplier 2 Part Number: N/A; Supplier 2 URL: N/A; Supplier 3: thegioiic; Supplier 3 Part Number: N/A; Supplier 3 URL: N/A; Value: 687150149022
footprint 687150149022
pins: 1, 2, 3, 4, 5, 6, 7, 8, 9, 10, 11, 12, 13, 14, 15, 16, 17, 18, 19, 20, 21, 22, 23, 24, 25, 26, 27, 28, 29, 30, 31, 32, 33, 34, 35, 36, 37, 38, 39, 40, 41, 42, 43, 44, 45, 46, 47, 48, 49, 50, M1, M2

## 687150182122
designator J?  (value not drawn)
WR-FPC SMT ZIF Horizontal Dual Contact, pitch 0.5mm, Horizontal, 50pins; Manufacturer: Wurth Elektronik; Contact Resistance: 30mΩ; Rated Current: 0.5A; Working Voltage: 50VAC; Withstanding Voltage: 1000VAC; ComponentLink1Description: Datasheet; ComponentLink1URL: https://www.we-online.com/redexpert/spec/687150182122?ad; Manufacturer Part Number: 687150182122; Category: FPC Connectors; Mount: Surface Mount; Operating Temperature Max: 85°C; Operating Temperature Min: -55°C; Packaging: Tape and Reel; Length: 27mm; Width: 3.7mm; Height: 0.96mm; Number of Pins: 50; Orientation: Horizontal; Pitch: 0.5mm; LCSC Part #: N/A; Supplier 1: Mouser; Supplier 1 Part Number: N/A; Supplier 1 URL: N/A; Supplier 2: Digi-Key; Supplier 2 Part Number: N/A; Supplier 2 URL: N/A; Supplier 3: thegioiic; Supplier 3 Part Number: N/A; Supplier 3 URL: N/A; Value: 687150182122
footprint 687150182122
pins: 1, 2, 3, 4, 5, 6, 7, 8, 9, 10, 11, 12, 13, 14, 15, 16, 17, 18, 19, 20, 21, 22, 23, 24, 25, 26, 27, 28, 29, 30, 31, 32, 33, 34, 35, 36, 37, 38, 39, 40, 41, 42, 43, 44, 45, 46, 47, 48, 49, 50, M1, M2

## 687306124422
designator J?  (value not drawn)
WR-FPC SMT ZIF Vertical, pitch 0.5mm, Vertical, 6pins; Manufacturer: Wurth Elektronik; Contact Resistance: 20mΩ; Rated Current: 0.5A; Working Voltage: 50VAC; Withstanding Voltage: 1000VAC; ComponentLink1Description: Datasheet; ComponentLink1URL: https://www.we-online.com/redexpert/spec/687306124422?ad; Manufacturer Part Number: 687306124422; Category: FPC Connectors; Mount: Surface Mount; Operating Temperature Max: 85°C; Operating Temperature Min: -25°C; Packaging: Tape and Reel; Length: 9.4mm; Width: 3.5mm; Height: 4.3mm; Number of Pins: 6; Orientation: Vertical; Pitch: 0.5mm; LCSC Part #: N/A; Supplier 1: Mouser; Supplier 1 Part Number: N/A; Supplier 1 URL: N/A; Supplier 2: Digi-Key; Supplier 2 Part Number: N/A; Supplier 2 URL: N/A; Supplier 3: thegioiic; Supplier 3 Part Number: N/A; Supplier 3 URL: N/A; Value: 687306124422
footprint 687306124422
pins: 1, 2, 3, 4, 5, 6, M1, M2, M3, M4

## 687308124422
designator J?  (value not drawn)
WR-FPC SMT ZIF Vertical, pitch 0.5mm, Vertical, 8pins; Manufacturer: Wurth Elektronik; Contact Resistance: 20mΩ; Rated Current: 0.5A; Working Voltage: 50VAC; Withstanding Voltage: 1000VAC; ComponentLink1Description: Datasheet; ComponentLink1URL: https://www.we-online.com/redexpert/spec/687308124422?ad; Manufacturer Part Number: 687308124422; Category: FPC Connectors; Mount: Surface Mount; Operating Temperature Max: 85°C; Operating Temperature Min: -25°C; Packaging: Tape and Reel; Length: 10.4mm; Width: 3.5mm; Height: 4.3mm; Number of Pins: 8; Orientation: Vertical; Pitch: 0.5mm; LCSC Part #: N/A; Supplier 1: Mouser; Supplier 1 Part Number: N/A; Supplier 1 URL: N/A; Supplier 2: Digi-Key; Supplier 2 Part Number: N/A; Supplier 2 URL: N/A; Supplier 3: thegioiic; Supplier 3 Part Number: N/A; Supplier 3 URL: N/A; Value: 687308124422
footprint 687308124422
pins: 1, 2, 3, 4, 5, 6, 7, 8, M1, M2, M3, M4

## 687310124422
designator J?  (value not drawn)
WR-FPC SMT ZIF Vertical, pitch 0.5mm, Vertical, 10pins; Manufacturer: Wurth Elektronik; Contact Resistance: 20mΩ; Rated Current: 0.5A; Working Voltage: 50VAC; Withstanding Voltage: 1000VAC; ComponentLink1Description: Datasheet; ComponentLink1URL: https://www.we-online.com/redexpert/spec/687310124422?ad; Manufacturer Part Number: 687310124422; Category: FPC Connectors; Mount: Surface Mount; Operating Temperature Max: 85°C; Operating Temperature Min: -25°C; Packaging: Tape and Reel; Length: 11.4mm; Width: 3.5mm; Height: 4.3mm; Number of Pins: 10; Orientation: Vertical; Pitch: 0.5mm; LCSC Part #: N/A; Supplier 1: Mouser; Supplier 1 Part Number: N/A; Supplier 1 URL: N/A; Supplier 2: Digi-Key; Supplier 2 Part Number: N/A; Supplier 2 URL: N/A; Supplier 3: thegioiic; Supplier 3 Part Number: N/A; Supplier 3 URL: N/A; Value: 687310124422
footprint 687310124422
pins: 1, 2, 3, 4, 5, 6, 7, 8, 9, 10, M1, M2, M3, M4

## 687312124422
designator J?  (value not drawn)
WR-FPC SMT ZIF Vertical, pitch 0.5mm, Vertical, 12pins; Manufacturer: Wurth Elektronik; Contact Resistance: 20mΩ; Rated Current: 0.5A; Working Voltage: 50VAC; Withstanding Voltage: 1000VAC; ComponentLink1Description: Datasheet; ComponentLink1URL: https://www.we-online.com/redexpert/spec/687312124422?ad; Manufacturer Part Number: 687312124422; Category: FPC Connectors; Mount: Surface Mount; Operating Temperature Max: 85°C; Operating Temperature Min: -25°C; Packaging: Tape and Reel; Length: 12.4mm; Width: 3.5mm; Height: 4.3mm; Number of Pins: 12; Orientation: Vertical; Pitch: 0.5mm; LCSC Part #: N/A; Supplier 1: Mouser; Supplier 1 Part Number: N/A; Supplier 1 URL: N/A; Supplier 2: Digi-Key; Supplier 2 Part Number: N/A; Supplier 2 URL: N/A; Supplier 3: thegioiic; Supplier 3 Part Number: N/A; Supplier 3 URL: N/A; Value: 687312124422
footprint 687312124422
pins: 1, 2, 3, 4, 5, 6, 7, 8, 9, 10, 11, 12, M1, M2, M3, M4

## 687314124422
designator J?  (value not drawn)
WR-FPC SMT ZIF Vertical, pitch 0.5mm, Vertical, 14pins; Manufacturer: Wurth Elektronik; Contact Resistance: 20mΩ; Rated Current: 0.5A; Working Voltage: 50VAC; Withstanding Voltage: 1000VAC; ComponentLink1Description: Datasheet; ComponentLink1URL: https://www.we-online.com/redexpert/spec/687314124422?ad; Manufacturer Part Number: 687314124422; Category: FPC Connectors; Mount: Surface Mount; Operating Temperature Max: 85°C; Operating Temperature Min: -25°C; Packaging: Tape and Reel; Length: 13.4mm; Width: 3.5mm; Height: 4.3mm; Number of Pins: 14; Orientation: Vertical; Pitch: 0.5mm; LCSC Part #: N/A; Supplier 1: Mouser; Supplier 1 Part Number: N/A; Supplier 1 URL: N/A; Supplier 2: Digi-Key; Supplier 2 Part Number: N/A; Supplier 2 URL: N/A; Supplier 3: thegioiic; Supplier 3 Part Number: N/A; Supplier 3 URL: N/A; Value: 687314124422
footprint 687314124422
pins: 1, 2, 3, 4, 5, 6, 7, 8, 9, 10, 11, 12, 13, 14, M1, M2, M3, M4

## 687316124422
designator J?  (value not drawn)
WR-FPC SMT ZIF Vertical, pitch 0.5mm, Vertical, 16pins; Manufacturer: Wurth Elektronik; Contact Resistance: 20mΩ; Rated Current: 0.5A; Working Voltage: 50VAC; Withstanding Voltage: 1000VAC; ComponentLink1Description: Datasheet; ComponentLink1URL: https://www.we-online.com/redexpert/spec/687316124422?ad; Manufacturer Part Number: 687316124422; Category: FPC Connectors; Mount: Surface Mount; Operating Temperature Max: 85°C; Operating Temperature Min: -25°C; Packaging: Tape and Reel; Length: 14.4mm; Width: 3.5mm; Height: 4.3mm; Number of Pins: 16; Orientation: Vertical; Pitch: 0.5mm; LCSC Part #: N/A; Supplier 1: Mouser; Supplier 1 Part Number: N/A; Supplier 1 URL: N/A; Supplier 2: Digi-Key; Supplier 2 Part Number: N/A; Supplier 2 URL: N/A; Supplier 3: thegioiic; Supplier 3 Part Number: N/A; Supplier 3 URL: N/A; Value: 687316124422
footprint 687316124422
pins: 1, 2, 3, 4, 5, 6, 7, 8, 9, 10, 11, 12, 13, 14, 15, 16, M1, M2, M3, M4

## 687318124422
designator J?  (value not drawn)
WR-FPC SMT ZIF Vertical, pitch 0.5mm, Vertical, 18pins; Manufacturer: Wurth Elektronik; Contact Resistance: 20mΩ; Rated Current: 0.5A; Working Voltage: 50VAC; Withstanding Voltage: 1000VAC; ComponentLink1Description: Datasheet; ComponentLink1URL: https://www.we-online.com/redexpert/spec/687318124422?ad; Manufacturer Part Number: 687318124422; Category: FPC Connectors; Mount: Surface Mount; Operating Temperature Max: 85°C; Operating Temperature Min: -25°C; Packaging: Tape and Reel; Length: 15.4mm; Width: 3.5mm; Height: 4.3mm; Number of Pins: 18; Orientation: Vertical; Pitch: 0.5mm; LCSC Part #: N/A; Supplier 1: Mouser; Supplier 1 Part Number: N/A; Supplier 1 URL: N/A; Supplier 2: Digi-Key; Supplier 2 Part Number: N/A; Supplier 2 URL: N/A; Supplier 3: thegioiic; Supplier 3 Part Number: N/A; Supplier 3 URL: N/A; Value: 687318124422
footprint 687318124422
pins: 1, 2, 3, 4, 5, 6, 7, 8, 9, 10, 11, 12, 13, 14, 15, 16, 17, 18, M1, M2, M3, M4

## 687320124422
designator J?  (value not drawn)
WR-FPC SMT ZIF Vertical, pitch 0.5mm, Vertical, 20pins; Manufacturer: Wurth Elektronik; Contact Resistance: 20mΩ; Rated Current: 0.5A; Working Voltage: 50VAC; Withstanding Voltage: 1000VAC; ComponentLink1Description: Datasheet; ComponentLink1URL: https://www.we-online.com/redexpert/spec/687320124422?ad; Manufacturer Part Number: 687320124422; Category: FPC Connectors; Mount: Surface Mount; Operating Temperature Max: 85°C; Operating Temperature Min: -25°C; Packaging: Tape and Reel; Length: 16.4mm; Width: 3.5mm; Height: 4.3mm; Number of Pins: 20; Orientation: Vertical; Pitch: 0.5mm; LCSC Part #: N/A; Supplier 1: Mouser; Supplier 1 Part Number: N/A; Supplier 1 URL: N/A; Supplier 2: Digi-Key; Supplier 2 Part Number: N/A; Supplier 2 URL: N/A; Supplier 3: thegioiic; Supplier 3 Part Number: N/A; Supplier 3 URL: N/A; Value: 687320124422
footprint 687320124422
pins: 1, 2, 3, 4, 5, 6, 7, 8, 9, 10, 11, 12, 13, 14, 15, 16, 17, 18, 19, 20, M1, M2, M3, M4

## 687322124422
designator J?  (value not drawn)
WR-FPC SMT ZIF Vertical, pitch 0.5mm, Vertical, 22pins; Manufacturer: Wurth Elektronik; Contact Resistance: 20mΩ; Rated Current: 0.5A; Working Voltage: 50VAC; Withstanding Voltage: 1000VAC; ComponentLink1Description: Datasheet; ComponentLink1URL: https://www.we-online.com/redexpert/spec/687322124422?ad; Manufacturer Part Number: 687322124422; Category: FPC Connectors; Mount: Surface Mount; Operating Temperature Max: 85°C; Operating Temperature Min: -25°C; Packaging: Tape and Reel; Length: 17.4mm; Width: 3.5mm; Height: 4.3mm; Number of Pins: 22; Orientation: Vertical; Pitch: 0.5mm; LCSC Part #: N/A; Supplier 1: Mouser; Supplier 1 Part Number: N/A; Supplier 1 URL: N/A; Supplier 2: Digi-Key; Supplier 2 Part Number: N/A; Supplier 2 URL: N/A; Supplier 3: thegioiic; Supplier 3 Part Number: N/A; Supplier 3 URL: N/A; Value: 687322124422
footprint 687322124422
pins: 1, 2, 3, 4, 5, 6, 7, 8, 9, 10, 11, 12, 13, 14, 15, 16, 17, 18, 19, 20, 21, 22, M1, M2, M3, M4

## 687324124422
designator J?  (value not drawn)
WR-FPC SMT ZIF Vertical, pitch 0.5mm, Vertical, 24pins; Manufacturer: Wurth Elektronik; Contact Resistance: 20mΩ; Rated Current: 0.5A; Working Voltage: 50VAC; Withstanding Voltage: 1000VAC; ComponentLink1Description: Datasheet; ComponentLink1URL: https://www.we-online.com/redexpert/spec/687324124422?ad; Manufacturer Part Number: 687324124422; Category: FPC Connectors; Mount: Surface Mount; Operating Temperature Max: 85°C; Operating Temperature Min: -25°C; Packaging: Tape and Reel; Length: 18.4mm; Width: 3.5mm; Height: 4.3mm; Number of Pins: 24; Orientation: Vertical; Pitch: 0.5mm; LCSC Part #: N/A; Supplier 1: Mouser; Supplier 1 Part Number: N/A; Supplier 1 URL: N/A; Supplier 2: Digi-Key; Supplier 2 Part Number: N/A; Supplier 2 URL: N/A; Supplier 3: thegioiic; Supplier 3 Part Number: N/A; Supplier 3 URL: N/A; Value: 687324124422
footprint 687324124422
pins: 1, 2, 3, 4, 5, 6, 7, 8, 9, 10, 11, 12, 13, 14, 15, 16, 17, 18, 19, 20, 21, 22, 23, 24, M1, M2, M3, M4

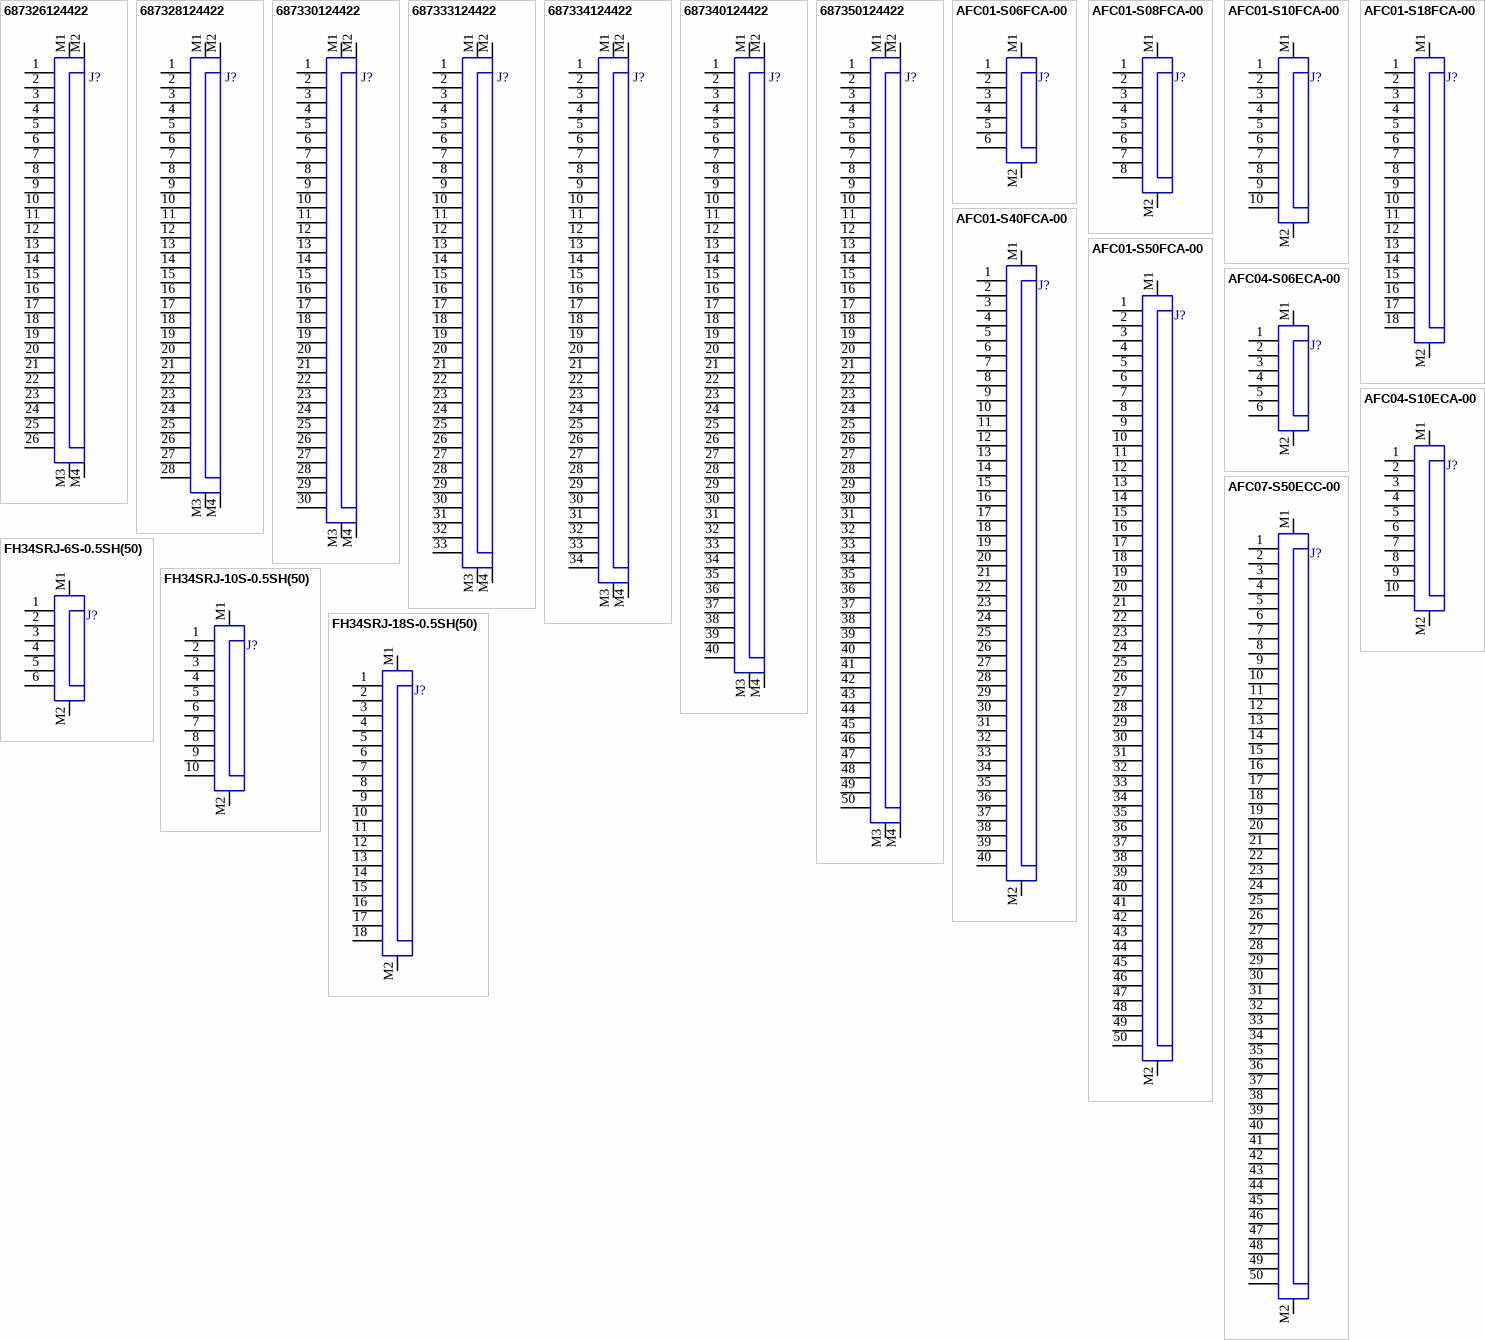
[diagram p7: symbols 687326124422 to FH34SRJ-18S-0.5SH(50)]

## 687326124422
designator J?  (value not drawn)
WR-FPC SMT ZIF Vertical, pitch 0.5mm, Vertical, 26pins; Manufacturer: Wurth Elektronik; Contact Resistance: 20mΩ; Rated Current: 0.5A; Working Voltage: 50VAC; Withstanding Voltage: 1000VAC; ComponentLink1Description: Datasheet; ComponentLink1URL: https://www.we-online.com/redexpert/spec/687326124422?ad; Manufacturer Part Number: 687326124422; Category: FPC Connectors; Mount: Surface Mount; Operating Temperature Max: 85°C; Operating Temperature Min: -25°C; Packaging: Tape and Reel; Length: 19.4mm; Width: 3.5mm; Height: 4.3mm; Number of Pins: 26; Orientation: Vertical; Pitch: 0.5mm; LCSC Part #: N/A; Supplier 1: Mouser; Supplier 1 Part Number: N/A; Supplier 1 URL: N/A; Supplier 2: Digi-Key; Supplier 2 Part Number: N/A; Supplier 2 URL: N/A; Supplier 3: thegioiic; Supplier 3 Part Number: N/A; Supplier 3 URL: N/A; Value: 687326124422
footprint 687326124422
pins: 1, 2, 3, 4, 5, 6, 7, 8, 9, 10, 11, 12, 13, 14, 15, 16, 17, 18, 19, 20, 21, 22, 23, 24, 25, 26, M1, M2, M3, M4

## 687328124422
designator J?  (value not drawn)
WR-FPC SMT ZIF Vertical, pitch 0.5mm, Vertical, 28pins; Manufacturer: Wurth Elektronik; Contact Resistance: 20mΩ; Rated Current: 0.5A; Working Voltage: 50VAC; Withstanding Voltage: 1000VAC; ComponentLink1Description: Datasheet; ComponentLink1URL: https://www.we-online.com/redexpert/spec/687328124422?ad; Manufacturer Part Number: 687328124422; Category: FPC Connectors; Mount: Surface Mount; Operating Temperature Max: 85°C; Operating Temperature Min: -25°C; Packaging: Tape and Reel; Length: 20.4mm; Width: 3.5mm; Height: 4.3mm; Number of Pins: 28; Orientation: Vertical; Pitch: 0.5mm; LCSC Part #: N/A; Supplier 1: Mouser; Supplier 1 Part Number: N/A; Supplier 1 URL: N/A; Supplier 2: Digi-Key; Supplier 2 Part Number: N/A; Supplier 2 URL: N/A; Supplier 3: thegioiic; Supplier 3 Part Number: N/A; Supplier 3 URL: N/A; Value: 687328124422
footprint 687328124422
pins: 1, 2, 3, 4, 5, 6, 7, 8, 9, 10, 11, 12, 13, 14, 15, 16, 17, 18, 19, 20, 21, 22, 23, 24, 25, 26, 27, 28, M1, M2, M3, M4

## 687330124422
designator J?  (value not drawn)
WR-FPC SMT ZIF Vertical, pitch 0.5mm, Vertical, 30pins; Manufacturer: Wurth Elektronik; Contact Resistance: 20mΩ; Rated Current: 0.5A; Working Voltage: 50VAC; Withstanding Voltage: 1000VAC; ComponentLink1Description: Datasheet; ComponentLink1URL: https://www.we-online.com/redexpert/spec/687330124422?ad; Manufacturer Part Number: 687330124422; Category: FPC Connectors; Mount: Surface Mount; Operating Temperature Max: 85°C; Operating Temperature Min: -25°C; Packaging: Tape and Reel; Length: 21.4mm; Width: 3.5mm; Height: 4.3mm; Number of Pins: 30; Orientation: Vertical; Pitch: 0.5mm; LCSC Part #: N/A; Supplier 1: Mouser; Supplier 1 Part Number: N/A; Supplier 1 URL: N/A; Supplier 2: Digi-Key; Supplier 2 Part Number: N/A; Supplier 2 URL: N/A; Supplier 3: thegioiic; Supplier 3 Part Number: N/A; Supplier 3 URL: N/A; Value: 687330124422
footprint 687330124422
pins: 1, 2, 3, 4, 5, 6, 7, 8, 9, 10, 11, 12, 13, 14, 15, 16, 17, 18, 19, 20, 21, 22, 23, 24, 25, 26, 27, 28, 29, 30, M1, M2, M3, M4

## 687333124422
designator J?  (value not drawn)
WR-FPC SMT ZIF Vertical, pitch 0.5mm, Vertical, 33pins; Manufacturer: Wurth Elektronik; Contact Resistance: 20mΩ; Rated Current: 0.5A; Working Voltage: 50VAC; Withstanding Voltage: 1000VAC; ComponentLink1Description: Datasheet; ComponentLink1URL: https://www.we-online.com/redexpert/spec/687333124422?ad; Manufacturer Part Number: 687333124422; Category: FPC Connectors; Mount: Surface Mount; Operating Temperature Max: 85°C; Operating Temperature Min: -25°C; Packaging: Tape and Reel; Length: 22.9mm; Width: 3.5mm; Height: 4.3mm; Number of Pins: 33; Orientation: Vertical; Pitch: 0.5mm; LCSC Part #: N/A; Supplier 1: Mouser; Supplier 1 Part Number: N/A; Supplier 1 URL: N/A; Supplier 2: Digi-Key; Supplier 2 Part Number: N/A; Supplier 2 URL: N/A; Supplier 3: thegioiic; Supplier 3 Part Number: N/A; Supplier 3 URL: N/A; Value: 687333124422
footprint 687333124422
pins: 1, 2, 3, 4, 5, 6, 7, 8, 9, 10, 11, 12, 13, 14, 15, 16, 17, 18, 19, 20, 21, 22, 23, 24, 25, 26, 27, 28, 29, 30, 31, 32, 33, M1, M2, M3, M4

## 687334124422
designator J?  (value not drawn)
WR-FPC SMT ZIF Vertical, pitch 0.5mm, Vertical, 34pins; Manufacturer: Wurth Elektronik; Contact Resistance: 20mΩ; Rated Current: 0.5A; Working Voltage: 50VAC; Withstanding Voltage: 1000VAC; ComponentLink1Description: Datasheet; ComponentLink1URL: https://www.we-online.com/redexpert/spec/687334124422?ad; Manufacturer Part Number: 687334124422; Category: FPC Connectors; Mount: Surface Mount; Operating Temperature Max: 85°C; Operating Temperature Min: -25°C; Packaging: Tape and Reel; Length: 23.4mm; Width: 3.5mm; Height: 4.3mm; Number of Pins: 34; Orientation: Vertical; Pitch: 0.5mm; LCSC Part #: N/A; Supplier 1: Mouser; Supplier 1 Part Number: N/A; Supplier 1 URL: N/A; Supplier 2: Digi-Key; Supplier 2 Part Number: N/A; Supplier 2 URL: N/A; Supplier 3: thegioiic; Supplier 3 Part Number: N/A; Supplier 3 URL: N/A; Value: 687334124422
footprint 687334124422
pins: 1, 2, 3, 4, 5, 6, 7, 8, 9, 10, 11, 12, 13, 14, 15, 16, 17, 18, 19, 20, 21, 22, 23, 24, 25, 26, 27, 28, 29, 30, 31, 32, 33, 34, M1, M2, M3, M4